# Altium footprint library Footprint.PcbLib: 5 footprints
Each footprint in its own frame and in the unit in brackets; x right, y up, seen from the top. Pads: shape width x height; smd on the part's side, far side on the other; paste and mask are expansions set on the pad; w line width, h text height; cw(c..) or ccw(c..) is an arc to the next point about the centre after c.
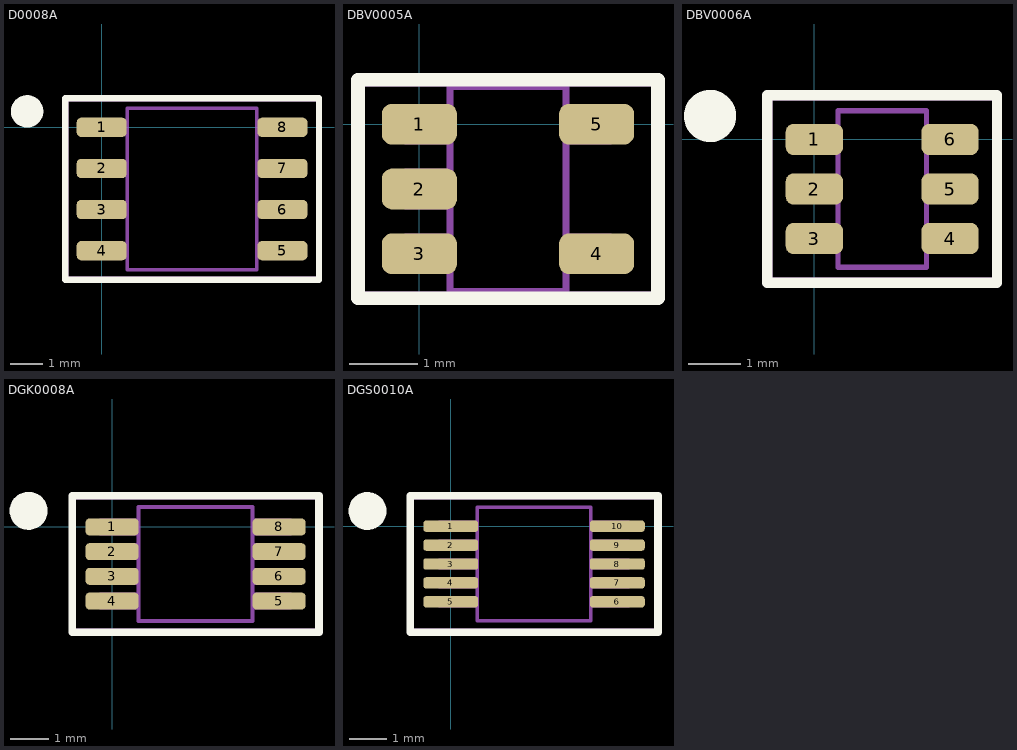
[diagram p0: the footprints below, top view; thin cyan lines are the x and y axes]

## D0008A [mm] "SOIC, 8-Leads, Body 5.00x3.90 mm, IPC Medium Density"
height 1.75
pads (8):
  rrect50% 1.55x0.6 smd mask+0.05: 1(0,0) 2(0,-1.27) 3(0,-2.54) 4(0,-3.81) 5(5.588,-3.81) 6(5.588,-2.54) 7(5.588,-1.27) 8(5.588,0)
Top Overlay:
  circle w0.5: c-2.306,0.495 r0.25
  lines w0.2: -1.131,-4.705 6.719,-4.705 6.719,0.895 -1.131,0.895 -1.131,-4.705
Top Pattern:
  lines w0.1: 0.294,-4.015 0.294,-3.615 ; 0.294,-2.745 0.294,-2.345 ; 0.294,-1.475 0.294,-1.075 ; 0.294,-0.205 0.294,0.195 ; 0.794,-4.015 -0.206,-4.015 -0.206,-3.615 0.794,-3.615 ; 0.794,-2.745 -0.206,-2.745 -0.206,-2.345 0.794,-2.345 ; 0.794,-1.475 -0.206,-1.475 -0.206,-1.075 0.794,-1.075 ; 0.794,-0.205 -0.206,-0.205 -0.206,0.195 0.794,0.195 ; 4.794,-4.005 5.794,-4.005 5.794,-3.605 4.794,-3.605 ; 4.794,-2.735 5.794,-2.735 5.794,-2.335 4.794,-2.335 ; 4.794,-1.465 5.794,-1.465 5.794,-1.065 4.794,-1.065 ; 4.794,-0.195 5.794,-0.195 5.794,0.205 4.794,0.205 ; 5.294,-4.005 5.294,-3.605 ; 5.294,-2.735 5.294,-2.335 ; 5.294,-1.465 5.294,-1.065 ; 5.294,-0.195 5.294,0.205 ; 0.794,-4.405 4.794,-4.405 4.794,0.595 0.794,0.595 0.794,-4.405
  text ".Designator" at -1.206,1.395 h1.52
Courtyard:
  lines w0.1: -1.081,-4.655 6.669,-4.655 6.669,0.845 -1.081,0.845 -1.081,-4.655
3D body "D0008A.step": height 1.75, standoff 0, extent -0.206,-4.405 5.794,0.595

## DBV0005A [mm] "SOT-23, 5-Leads, Body 3.00x1.70 mm, IPC Medium Density"
height 1.45
pads (5):
  rrect50% 1.1x0.6 smd mask+0.05: 1(0,0) 2(0,-0.95) 3(0,-1.9) 4(2.6,-1.9) 5(2.6,0)
Top Overlay:
  lines w0.2: -0.9,-2.55 3.5,-2.55 3.5,0.65 -0.9,0.65 -0.9,-2.55
Top Pattern:
  lines w0.1: 0.125,-2.15 0.125,-1.65 ; 0.125,-1.2 0.125,-0.7 ; 0.125,-0.25 0.125,0.25 ; 0.45,-2.15 -0.2,-2.15 -0.2,-1.65 0.45,-1.65 ; 0.45,-1.2 -0.2,-1.2 -0.2,-0.7 0.45,-0.7 ; 0.45,-0.25 -0.2,-0.25 -0.2,0.25 0.45,0.25 ; 2.15,-2.15 2.8,-2.15 2.8,-1.65 2.15,-1.65 ; 2.15,-0.25 2.8,-0.25 2.8,0.25 2.15,0.25 ; 2.475,-2.15 2.475,-1.65 ; 2.475,-0.25 2.475,0.25 ; 0.45,-2.45 0.45,0.55 2.15,0.55 2.15,-2.45 0.45,-2.45
  text ".Designator" at -1.05,1.125 h1.52
Courtyard:
  lines w0.1: -0.85,-2.5 -0.85,0.6 3.45,0.6 3.45,-2.5 -0.85,-2.5
3D body "DBV0005A.step": height 1.45, standoff 0, extent -0.2,-2.45 2.8,0.55

## DBV0006A [mm] "SOT-23, 6-Leads, Body 3.00x1.70 mm, IPC Medium Density"
height 1.45
pads (6):
  rrect50% 1.1x0.6 smd mask+0.05: 1(0,0) 2(0,-0.95) 3(0,-1.9) 4(2.6,-1.9) 5(2.6,-0.95) 6(2.6,0)
Top Overlay:
  circle w0.5: c-2,0.45 r0.25
  lines w0.2: -0.9,-2.75 -0.9,0.85 3.5,0.85 3.5,-2.75 -0.9,-2.75
Top Pattern:
  lines w0.1: 0.125,-2.125 0.125,-1.675 ; 0.125,-1.175 0.125,-0.725 ; 0.125,-0.225 0.125,0.225 ; 0.45,-2.125 -0.2,-2.125 -0.2,-1.675 0.45,-1.675 ; 0.45,-1.175 -0.2,-1.175 -0.2,-0.725 0.45,-0.725 ; 0.45,-0.225 -0.2,-0.225 -0.2,0.225 0.45,0.225 ; 2.15,-2.125 2.8,-2.125 2.8,-1.675 2.15,-1.675 ; 2.15,-1.175 2.8,-1.175 2.8,-0.725 2.15,-0.725 ; 2.15,-0.225 2.8,-0.225 2.8,0.225 2.15,0.225 ; 2.475,-2.125 2.475,-1.675 ; 2.475,-1.175 2.475,-0.725 ; 2.475,-0.225 2.475,0.225 ; 0.45,-2.45 2.15,-2.45 2.15,0.55 0.45,0.55 0.45,-2.45
  text ".Designator" at -1,1.35 h1.52
Courtyard:
  lines w0.1: -0.85,-2.7 -0.85,0.8 3.45,0.8 3.45,-2.7 -0.85,-2.7
3D body "DBV0006A.step": height 1.45, standoff 0, extent -0.2,-2.45 2.8,0.55

## DGK0008A [mm] "VSSOP, 8-Leads, Body 3.00x3.00 mm, IPC Medium Density"
height 1.1
pads (8):
  rrect50% 1.4x0.45 smd mask+0.03: 1(0,0) 2(0,-0.65) 3(0,-1.3) 4(0,-1.95) 5(4.4,-1.95) 6(4.4,-1.3) 7(4.4,-0.65) 8(4.4,0)
Top Overlay:
  circle w0.5: c-2.2,0.425 r0.25
  lines w0.2: -1.05,-2.775 -1.05,0.825 5.45,0.825 5.45,-2.775 -1.05,-2.775
Top Pattern:
  lines w0.1: 0.2,-2.125 0.2,-1.775 ; 0.2,-1.475 0.2,-1.125 ; 0.2,-0.825 0.2,-0.475 ; 0.2,-0.175 0.2,0.175 ; 0.7,-2.125 -0.3,-2.125 -0.3,-1.775 0.7,-1.775 ; 0.7,-1.475 -0.3,-1.475 -0.3,-1.125 0.7,-1.125 ; 0.7,-0.825 -0.3,-0.825 -0.3,-0.475 0.7,-0.475 ; 0.7,-0.175 -0.3,-0.175 -0.3,0.175 0.7,0.175 ; 3.7,-2.125 4.7,-2.125 4.7,-1.775 3.7,-1.775 ; 3.7,-1.475 4.7,-1.475 4.7,-1.125 3.7,-1.125 ; 3.7,-0.825 4.7,-0.825 4.7,-0.475 3.7,-0.475 ; 3.7,-0.175 4.7,-0.175 4.7,0.175 3.7,0.175 ; 4.2,-2.125 4.2,-1.775 ; 4.2,-1.475 4.2,-1.125 ; 4.2,-0.825 4.2,-0.475 ; 4.2,-0.175 4.2,0.175 ; 0.7,-2.475 3.7,-2.475 3.7,0.525 0.7,0.525 0.7,-2.475
  text ".Designator" at -1.2,1.325 h1.52
Courtyard:
  lines w0.1: -1,-2.725 -1,0.775 5.4,0.775 5.4,-2.725 -1,-2.725
3D body "DGK0008A.step": height 1.1, standoff 0, extent -0.3,-2.475 4.7,0.525

## DGS0010A [mm] "VSSOP, 10-Leads, Body 3.00x3.00 mm, IPC Medium Density"
height 1.1
pads (10):
  rrect50% 1.45x0.3 smd mask+0.03: 1(0,0) 2(0,-0.5) 3(0,-1) 4(0,-1.5) 5(0,-2) 6(4.4,-2) 7(4.4,-1.5) 8(4.4,-1) 9(4.4,-0.5) 10(4.4,0)
Top Overlay:
  circle w0.5: c-2.2,0.4 r0.25
  lines w0.2: -1.075,-2.8 5.475,-2.8 5.475,0.8 -1.075,0.8 -1.075,-2.8
Top Pattern:
  lines w0.1: 0.2,-2.1 0.2,-1.9 ; 0.2,-1.6 0.2,-1.4 ; 0.2,-1.1 0.2,-0.9 ; 0.2,-0.6 0.2,-0.4 ; 0.2,-0.1 0.2,0.1 ; 0.7,-2.1 -0.3,-2.1 -0.3,-1.9 0.7,-1.9 ; 0.7,-1.6 -0.3,-1.6 -0.3,-1.4 0.7,-1.4 ; 0.7,-1.1 -0.3,-1.1 -0.3,-0.9 0.7,-0.9 ; 0.7,-0.6 -0.3,-0.6 -0.3,-0.4 0.7,-0.4 ; 0.7,-0.1 -0.3,-0.1 -0.3,0.1 0.7,0.1 ; 3.7,-2.1 4.7,-2.1 4.7,-1.9 3.7,-1.9 ; 3.7,-1.6 4.7,-1.6 4.7,-1.4 3.7,-1.4 ; 3.7,-1.1 4.7,-1.1 4.7,-0.9 3.7,-0.9 ; 3.7,-0.6 4.7,-0.6 4.7,-0.4 3.7,-0.4 ; 3.7,-0.1 4.7,-0.1 4.7,0.1 3.7,0.1 ; 4.2,-2.1 4.2,-1.9 ; 4.2,-1.6 4.2,-1.4 ; 4.2,-1.1 4.2,-0.9 ; 4.2,-0.6 4.2,-0.4 ; 4.2,-0.1 4.2,0.1 ; 0.7,-2.5 0.7,0.5 3.7,0.5 3.7,-2.5 0.7,-2.5
  text ".Designator" at -1.2,1.3 h1.52
Courtyard:
  lines w0.1: -1.025,-2.75 5.425,-2.75 5.425,0.75 -1.025,0.75 -1.025,-2.75
3D body "DGS0010A.step": height 1.1, standoff 0, extent -0.3,-2.5 4.7,0.5